# EAGLE library part -RELAY (library tango)
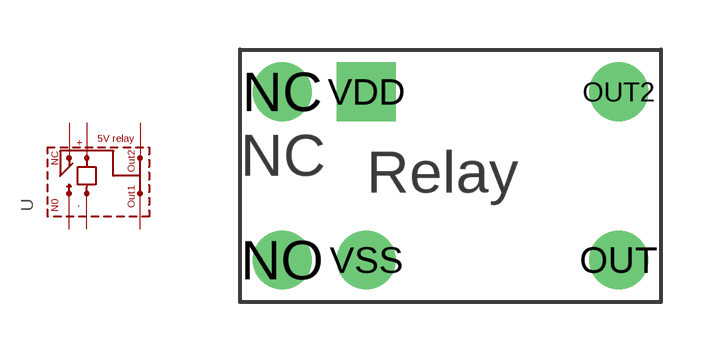
[diagram p15: symbol with the pads of RELAY; footprint RELAY]

Designator prefix -

## -RELAY  [RELAY]
NC  NC  in
NO  NO  in
OUT  OUT  out
OUT2  OUT2  out
VDD  VDD  pwr
VSS  VSS  pwr

## Footprint RELAY (pad centres in mm)
drill 0.9 pad 1.778 round: NC -5.08,2.54; NO -5.08,-2.54; OUT 5.08,-2.54; OUT2 5.08,2.54; VSS -2.54,-2.54
drill 0.9 pad 1.778 square: VDD -2.54,2.54